# Altium schematic symbol library Resistors.SchLib: 74 symbols
Pins are listed as number, name and electrical type; pins without a type are passive.

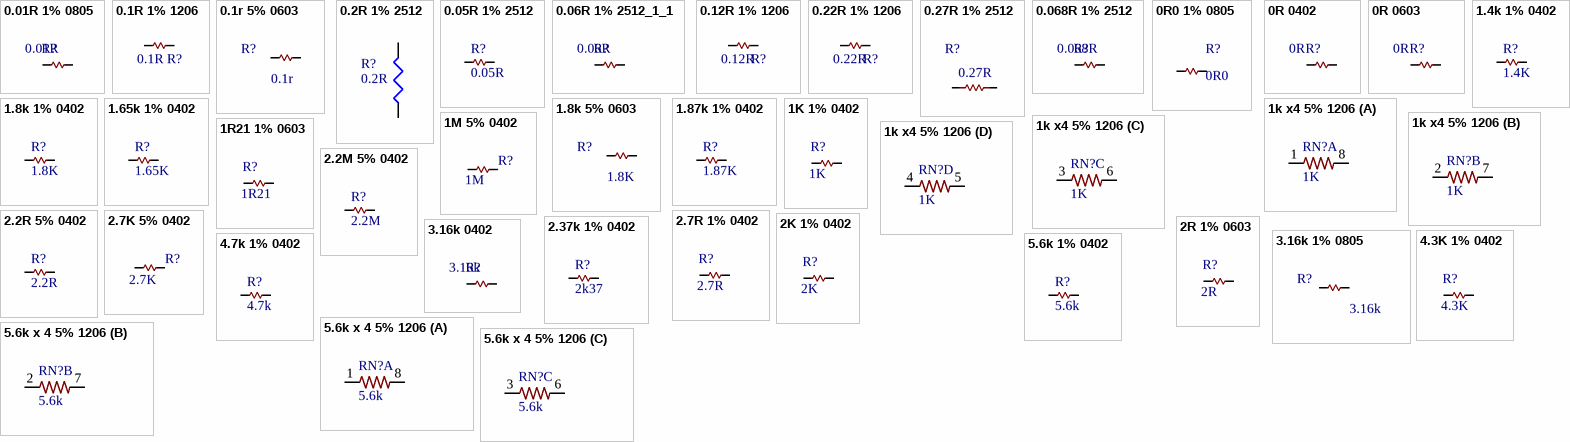
[diagram p0: symbols 0.01R 1% 0805 to 5.6k x 4 5% 1206]

## 0.01R 1% 0805
designator R?, comment 0.01R
RES 0.01 OHM 1% 1/2W 0805; MANUFACTURER: Susumu; MANUFACTURER #: KRL1220E-M-R010-F-T5; PART: 0.01 1% 0.5W 0805; PART DESCRIPTION: 10 mOhms ±1% 0.5W, 1/2W Chip Resistor 0805 (2012 Metric) Automotive AEC-Q200, Current Sense Metal Foil; EE_SPEC: 0.5W; DISTRIBUTOR #: 408-1544-2-ND; DISTRIBUTOR: Digikey; TOLERANCE: 1%; VALUE: 0.01R
footprint R0805
pins: 1, 2

## 0.1R 1% 1206
designator R?, comment 0.1R
RES 1206 0.1r 0.5w 1%; Manufacturer: Bourns; MANUFACTURER #: CRM1206-FX-R100ELF; Part Description: 0.1 Ohm ±1% 0.5W, 1/2W Chip Resistor 1206 (3216 Metric) Current Sense Thick Film; EE_SPEC: 0.1R 1% 1206; Tolerance: +/- 1%; DISTRIBUTOR #: CRM1206-FX-R100ELFTR-ND; DISTRIBUTOR: Digi-Key; PART: 0.1R; VALUE: 0.1R
footprint R1206
pins: 1, 2

## 0.1r 5% 0603
designator R?, comment 0.1r
RES 0.1 OHM 5% 1/10W 0603; MANUFACTURER: Panasonic; MANUFACTURER #: ERJ-3RSJR10V; PART DESCRIPTION: 100 mOhms ±5% 0.1W, 1/10W Chip Resistor 0603 (1608 Metric) Automotive AEC-Q200, Current Sense Thick Film; PART: ERJ-3RSJR10V; TOLERANCE: 5%; EE_SPEC: 1/10W; VALUE: 0.1r
footprint R0603
pins: 1, 2

## 0.2R 1% 2512
designator R?, comment value 0.2R  (hidden comment: 2512)
RES SMD 0.2 OHM 1% 2W 2512; MANUFACTURER #: CSRN2512FKR200; MANUFACTURER: Stackpole ELectronics Inc; PART: 0.2R 1% 2512; PART DESCRIPTION: 0.2 Ohm ±1% 2W Chip Resistor 2512 (6432 Metric) Current Sense Thick Film; DISTRIBUTOR #: CSRN2512FKR200TR-ND; DISTRIBUTOR: Digikey; TOLERANCE: 1%; EE_SPEC: 2W
footprint R2512
pins: 1, 2

## 0.05R 1% 2512
designator R?, comment 0.05R
RES 0.05 OHM 1% 2W 2512; MANUFACTURER: Stackpole; MANUFACTURER #: CSRN2512FK50L0; Part Description: 50 mOhms ±1% 2W Chip Resistor 2512 (6432 Metric) Current Sense Thick Film; EE_SPEC: 0.05R 1% 2512; Tolerance: +/- 1%; VALUE: 0.05R
footprint R2512
pins: 1, 2

## 0.06R 1% 2512_1_1
designator R?, comment 0.06R
RES 0.06 OHM 1W 1% 2512 SMD; MANUFACTURER: Yageo; MANUFACTURER #: RL2512FK-070R06L; PART: 0.6R 1% 2512; PART DESCRIPTION: 0.06 Ohm ±1% 1W Chip Resistor 2512 (6432 Metric) Automotive AEC-Q200, Current Sense, Moisture Resistant Thick Film; DISTRIBUTOR #: 311-0.06TTR-ND; DISTRIBUTOR: Digikey; TOLERANCE: 1%; EE_SPEC: 1W; VALUE: 0.06R
footprint 2512R-0.55 (2512 Resistor 6.35mm x 3.2mm x 0.55mm)
pins: 1, 2

## 0.12R 1% 1206
designator R?, comment 0.12R
RES 0.12 OHM 1% 1/2W 1206; MANUFACTURER #: RL1206FR-7W0R12L; Part Description: 120 mOhms ±1% 0.5W, 1/2W Chip Resistor 1206 (3216 Metric) Automotive AEC-Q200, Current Sense, Moisture Resistant Thick Film; EE_SPEC: 0.12R 1% 1206; Tolerance: +/- 1%; DISTRIBUTOR #: 311-.12LYTR-ND; DISTRIBUTOR: Digi-Key; PART: 0.12R; VALUE: 0.12R
footprint R1206
pins: 1, 2

## 0.22R 1% 1206
designator R?, comment 0.22R
RES SMD 0.22 OHM 1% 1/3W 1206; MANUFACTURER: Panasonic; MANUFACTURER #: RUT3216FR220CS; EE_SPEC: 0.22R 1% 1206; Tolerance: +/- 1%; DISTRIBUTOR #: RUT3216FR220CS; DISTRIBUTOR: Digi-Key; PART: 0.22R; Part Description: RES SMD 0.22 OHM 1% 1/3W 1206; VALUE: 0.22R
footprint R1206
pins: 1, 2

## 0.27R 1% 2512
designator R?, comment 0.27R
RES SMD 0.27 OHM 1% 2W 2512; MANUFACTURER #: RL2512FK-070R27L; MANUFACTURER: Yageo; PART: RES SMD 0.27 OHM 1% 1W 2512; PART DESCRIPTION: ±1% 1W Chip Resistor 2512 (6432 Metric) Automotive AEC-Q200, Current Sense, Moisture Resistant Thick Film; EE_SPEC: 1W; DISTRIBUTOR #: 311-0.27TTR-ND; DISTRIBUTOR: Digikey; TOLERANCE: 1%; VALUE: 0.27R
footprint R2512
pins: 1, 2

## 0.068R 1% 2512
designator R?, comment 0.068R
RES 0.068 OHM 1% 2W 2512; MANUFACTURER: Stackpole; MANUFACTURER #: CSRN2512FK68L0; PART: 0.068R 1% 2512; PART DESCRIPTION: 68 mOhms ±1% 2W Chip Resistor 2512 (6432 Metric) Current Sense Thick Film; DISTRIBUTOR #: CSRN2512FK68L0TR-ND; DISTRIBUTOR: Digikey; TOLERANCE: 1%; EE_SPEC: 2W; VALUE: 0.068R
footprint R2512
pins: 1, 2

## 0R0 1% 0805
designator R?, comment 0R0
RES 0.0 OHM 1/8W JUMP 0805 SMD; MANUFACTURER: STACKPOLE; MANUFACTURER #: RMCF0805ZT0R00; PART DESCRIPTION: 0 Ohms Jumper 0.125W, 1/8W Chip Resistor 0805 (2012 Metric) Automotive AEC-Q200 Thick Film; TOLERANCE: 1%; EE_SPEC: 0.125W; PART: 0R0; DISTRIBUTOR: Digi-Key; DISTRIBUTOR #: RMCF0805ZT0R00CT-ND; VALUE: 0R0
footprint R0805
pins: 1, 2

## 0R 0402
designator R?, comment 0R
RES SMD 0.0OHM JUMPER 1/10W 0402; MANUFACTURER: Panasonic; MANUFACTURER #: ERJ-2GE0R00X; PART DESCRIPTION: 0.0 Ohm Jumper 0.1W, 1/10W Chip Resistor 0402 (1005 Metric) Automotive AEC-Q200 Thick Film; MANUFACTURER2 #: RC0402JR-070RL; TOLERANCE: 1%; DISTRIBUTOR #: P0.0JTR-ND; DISTRIBUTOR: Digikey; PART: 0R; EE_SPEC: 1/10W; VALUE: 0R
footprint R0402
pins: 1, 2

## 0R 0603
designator R?, comment 0R
RES SMD 0.0OHM JUMPER 1/10W 0603; MANUFACTURER: Bourns; MANUFACTURER #: CR0603-J/-000ELF; PART DESCRIPTION: 0.0 Ohm Jumper 0.1W, 1/10W Chip Resistor 0603 (1608 Metric) Moisture Resistant Thick Film; TOLERANCE: -NA-; EE_SPEC: 0R 0603; DISTRIBUTOR #: CR0603-J/-000ELFTR-ND; DISTRIBUTOR: Digikey; PART: 0R; VALUE: 0R
footprint R0603
pins: 1, 2

## 1.4k 1% 0402
designator R?, comment 1.4K
RES SMD 1.4K OHM 1% 1/16W 0402; MANUFACTURER: Stackpole; MANUFACTURER #: RMCF0402FT1K40; Part Description: 1.4 kOhms ±1% 0.063W, 1/16W Chip Resistor 0402 (1005 Metric) Automotive AEC-Q200 Thick Film; EE_SPEC: 1.4k 1% 0402; Tolerance: +/- 1%; VALUE: 1.4K
footprint R0402
pins: 1, 2

## 1.8k 1% 0402
designator R?, comment 1.8K
RES SMD 1.8K OHM 1% 1/16W 0402; Manufacturer: Yageo; MANUFACTURER #: RC0402FR-071K8L; Part Description: 1.8k Ohm ±1% 0.063W, 1/16W Chip Resistor 0402 (1005 Metric) Moisture Resistant Thick Film; EE_SPEC: 1.8k 1% 0402; Tolerance: +/- 1%; VALUE: 1.8K; DISTRIBUTOR #: 311-1.80KLRTR-ND; DISTRIBUTOR: Digi-Key; PART: 1.8k
footprint R0402
pins: 1, 2

## 1.8k 5% 0603
designator R?, comment 1.8K
RES 0603 1.8K 100mW 5%; MANUFACTURER: Yageo; MANUFACTURER #: RC0603JR-071K8L; PART: 1.8k 5% 0603; PART DESCRIPTION: 1.8k Ohm ±5% 0.1W, 1/10W Chip Resistor 0603 (1608 Metric) Moisture Resistant Thick Film; EE_SPEC: 1/10W; DISTRIBUTOR #: 311-1.8KGRTR-ND; DISTRIBUTOR: Digikey; TOLERANCE: 5%; VALUE: 1.8K
footprint R0603
pins: 1, 2

## 1.65k 1% 0402
designator R?, comment 1.65K
RES SMD 1.65K OHM 1% 1/16W 0402; MANUFACTURER: Yageo; MANUFACTURER #: RC0402FR-071K65L; Part Description: 1.65k Ohm ±1% 0.063W, 1/16W Chip Resistor 0402 (1005 Metric) Moisture Resistant Thick Film; EE_SPEC: 1.65k 1% 0402; Tolerance: +/- 1%; VALUE: 1.65K; DISTRIBUTOR #: YAG3043TR-ND; DISTRIBUTOR: Digi-Key; PART: 1.65k
footprint R0402
pins: 1, 2

## 1.87k 1% 0402
designator R?, comment 1.87K
RES SMD 1.87K OHM 1% 1/16W 0402; Manufacturer: Yageo; MANUFACTURER #: RC0402FR-071K87L; Part Description: 1.87k Ohm ±1% 0.063W, 1/16W Chip Resistor 0402 (1005 Metric) Moisture Resistant Thick Film; EE_SPEC: 1.8k 1% 0402; Tolerance: +/- 1%; VALUE: 1.87K; DISTRIBUTOR #: YAG3048TR-ND; DISTRIBUTOR: Digi-Key; PART: 1.87k
footprint R0402
pins: 1, 2

## 1K 1% 0402
designator R?, comment 1K
RES 0402 1K 63mW 1%; MANUFACTURER: Yageo; MANUFACTURER #: RC0402FR-071KL; PART: 1K 1% 0402; PART DESCRIPTION: 1k Ohm ±1% 0.063W, 1/16W Chip Resistor 0402 (1005 Metric) Moisture Resistant Thick Film; EE_SPEC: 1/16W; DISTRIBUTOR #: 311-1.00KLRTR-ND; DISTRIBUTOR: Digikey; TOLERANCE: 1%; VALUE: 1K
footprint R0402
pins: 1, 2

## 1k x4 5% 1206
designator RN?, comment 1K
RES ARRAY 4 RES 1K 1206 62.5mW 5%; Manufacturer: Bourns; MANUFACTURER #: CAY16-102J4LF; Part Description: 1k Ohm ±5% 62.5mW Power Per Element Isolated Resistor Network/Array ±200ppm/°C 1206 (3216 Metric), Convex, Long Side Terminals; EE_SPEC: 1k 5% Array_x_4; Tolerance: +/- 5%; VALUE: 1K; DISTRIBUTOR #: CAY16-102J4LFTR-ND; DISTRIBUTOR: Digi-Key; PART: 1K
footprint CAY16
part A pins: 1, 8 2
part B pins: 2 1, 7 2
part C pins: 3 1, 6 2
part D pins: 4 1, 5 2

## 1M 5% 0402
designator R?, comment 1M
RES 0402 1M 100mW 5%; MANUFACTURER: Panasonic; MANUFACTURER #: ERJ2GEJ105X; PART: 1M 5% 0402; PART DESCRIPTION: 1M Ohm ±5% 0.1W, 1/10W Chip Resistor 0402 (1005 Metric) Automotive AEC-Q200 Thick Film; EE_SPEC: 1/10W; DISTRIBUTOR #: P1.0MJTR-ND; DISTRIBUTOR: Digikey; TOLERANCE: 5%; VALUE: 1M
footprint R0402
pins: 1, 2

## 1R21 1% 0603
designator R?, comment 1R21
RES SMD 1.21 OHM 1% 1/10W 0603; MANUFACTURER: Stackpole; MANUFACTURER #: RMCF0603FT1R21; PART: 1R21 1% 0603; PART DESCRIPTION: 1.21 Ohm ±1% 0.1W, 1/10W Chip Resistor 0603 (1608 Metric) Automotive AEC-Q200 Thick Film; DISTRIBUTOR #: RMCF0603FT1R21TR-ND; DISTRIBUTOR: Digikey; TOLERANCE: 1%; EE_SPEC: 1/10W; VALUE: 1R21
footprint R0603
pins: 1, 2

## 2.2M 5% 0402
designator R?, comment 2.2M
RES SMD 2.2 MOHM 5% 1/16W 0402; MANUFACTURER: Yageo; MANUFACTURER #: RC0402JR-072M2L; Part Description: 2.2 MOhms ±5% 0.063W, 1/16W Chip Resistor 0402 (1005 Metric) Moisture Resistant Thick Film; EE_SPEC: 2.2M 5% 0402; Tolerance: +/- 5%; VALUE: 2.2M
footprint R0402
pins: 1, 2

## 2.2R 5% 0402
designator R?, comment 2.2R
RES SMD 2.2 OHM 5% 1/16W 0402; MANUFACTURER: Yageo; MANUFACTURER #: RC0402JR-072R2L; Part Description: 2.2 Ohms ±5% 0.063W, 1/16W Chip Resistor 0402 (1005 Metric) Moisture Resistant Thick Film; EE_SPEC: 2.2R 5% 0402; Tolerance: +/- 5%; VALUE: 2.2R
footprint R0402
pins: 1, 2

## 2.7K 5% 0402
designator R?, comment 2.7K
RES SMD 2.7K OHM 5% 1/16W 0402; MANUFACTURER: Yageo; MANUFACTURER #: RC0402JR-072K7L; PART: 2.7K 5% 0402; PART DESCRIPTION: 2.7 kOhms ±5% 0.063W, 1/16W Chip Resistor 0402 (1005 Metric) Moisture Resistant Thick Film; TOLERANCE: 5%; EE_SPEC: 1/16W; VALUE: 2.7K
footprint R0402
pins: 1, 2

## 2.7R 1% 0402
designator R?, comment 2.7R
RES 2.7 OHM 1% 1/10W 0402; MANUFACTURER: KOA; MANUFACTURER #: RK73H1ETTP2R70F; PART DESCRIPTION: 2.7 Ohms ±1% 0.1W, 1/10W Chip Resistor 0402 (1005 Metric) Automotive AEC-Q200 Thick Film; EE_SPEC: 1/10th; PART: RK73H1ETTP2R70F; TOLERANCE: 1%; VALUE: 2.7R
footprint R0402
pins: 1, 2

## 2.37k 1% 0402
designator R?, comment 2k37
RES SMD 2.37K OHM 1% 1/16W 0402; MANUFACTURER: Yageo; MANUFACTURER #: RC0402FR-072K37L; PART: 2.37k 1% 0402; PART DESCRIPTION: 2.37k Ohm ±1% 0.063W, 1/16W Chip Resistor 0402 (1005 Metric) Moisture Resistant Thick Film; DISTRIBUTOR #: 311-2.37KLRTR-ND; DISTRIBUTOR: Digikey; TOLERANCE: 1%; EE_SPEC: 1/16W; VALUE: 2k37
footprint R0402
pins: 1, 2

## 2K 1% 0402
designator R?, comment 2K
RES SMD 2K OHM 1% 1/16W 0402; MANUFACTURER: Yageo; MANUFACTURER #: RC0402FR-072KL; PART: 2k 1% 0402; PART DESCRIPTION: 2 kOhms ±1% 0.063W, 1/16W Chip Resistor 0402 (1005 Metric) Moisture Resistant Thick Film; TOLERANCE: 1%; EE_SPEC: 1/16W; VALUE: 2K
footprint R0402
pins: 1, 2

## 2R 1% 0603
designator R?, comment 2R
RES SMD 2 OHM 1% 1/10W 0603; MANUFACTURER: Yageo; MANUFACTURER #: RC0603FR-072RL; PART: 2R 1% 0603; PART DESCRIPTION: 2 Ohm ±1% 0.1W, 1/10W Chip Resistor 0603 (1608 Metric) Moisture Resistant Thick Film; DISTRIBUTOR #: 311-2.00HRTR-ND; DISTRIBUTOR: Digikey; TOLERANCE: 1%; EE_SPEC: 1/10W; VALUE: 2R
footprint R0603
pins: 1, 2

## 3.16k 1% 0805
designator R?, comment 3.16k
RES SMD 3.16K OHM 1% 1/8W 0805; MANUFACTURER: Yageo; MANUFACTURER #: RC0805FR-073K16L; PART DESCRIPTION: 3.16k Ohm ±1% 0.125W, 1/8W Chip Resistor 0805 (2012 Metric) Moisture Resistant Thick Film; DISTRIBUTOR #: 311-3.16KCRTR-ND; DISTRIBUTOR: Digikey; PART: RES SMD 3.16K OHM 1% 1/8W 0805; TOLERANCE: 1%; EE_SPEC: 1/8W; VALUE: 3.16k
footprint R0805
pins: 1, 2

## 3.16k 0402
designator R?, comment 3.16k
RES SMD 3.16K OHM 1% 1/16W 0402; MANUFACTURER: Yageo; MANUFACTURER #: RC0402FR-073K16L; PART DESCRIPTION: 3.16k Ohm ±1% 0.063W, 1/16W Chip Resistor 0402 (1005 Metric) Moisture Resistant Thick Film; DISTRIBUTOR #: YAG3146TR-ND; DISTRIBUTOR: Digikey; PART: RES SMD 3.16K OHM 1% 1/16W 0402; TOLERANCE: 1%; VALUE: 3.16k
footprint R0402
pins: 1, 2

## 4.3K 1% 0402
designator R?, comment 4.3K
RES SMD 4.3K OHM 1% 1/16W 0402; MANUFACTURER: Yageo; MANUFACTURER #: RC0402FR-074K3L; PART: 4.3K 1% 0402; PART DESCRIPTION: 2 kOhms ±1% 0.063W, 1/16W Chip Resistor 0402 (1005 Metric) Moisture Resistant Thick Film; TOLERANCE: 1%; EE_SPEC: 1/16W; VALUE: 4.3K
footprint R0402
pins: 1, 2

## 4.7k 1% 0402
designator R?, comment 4.7k
RES SMD 4.7K OHM 1% 1/16W 0402; MANUFACTURER: YAGEO; MANUFACTURER #: RC0402FR-074K7L; PART: 4.7k 1% 0402; PART DESCRIPTION: 4.7k Ohm ±1% 0.063W, 1/16W Chip Resistor 0402 (1005 Metric) Moisture Resistant Thick Film; DISTRIBUTOR #: 311-4.7KLRTR-ND; DISTRIBUTOR: Digikey; TOLERANCE: 1%; EE_SPEC: 1/16W; VALUE: 4.7k
footprint R0402
pins: 1, 2

## 5.6k 1% 0402
designator R?, comment 5.6k
RES SMD 5.6K OHM 1% 1/16W 0402; MANUFACTURER: YAGEO; MANUFACTURER #: RC0402FR-075K6L; PART DESCRIPTION: ±1% 0.063W, 1/16W Chip Resistor 0402 (1005 Metric) Moisture Resistant Thick Film; DISTRIBUTOR #: 311-5.6KLRTR-ND; DISTRIBUTOR: Digikey; PART: RES SMD 5.6K OHM 1% 1/16W 0402; TOLERANCE: 1%; EE_SPEC: 1/16W; VALUE: 5.6k
footprint R0402
pins: 1, 2

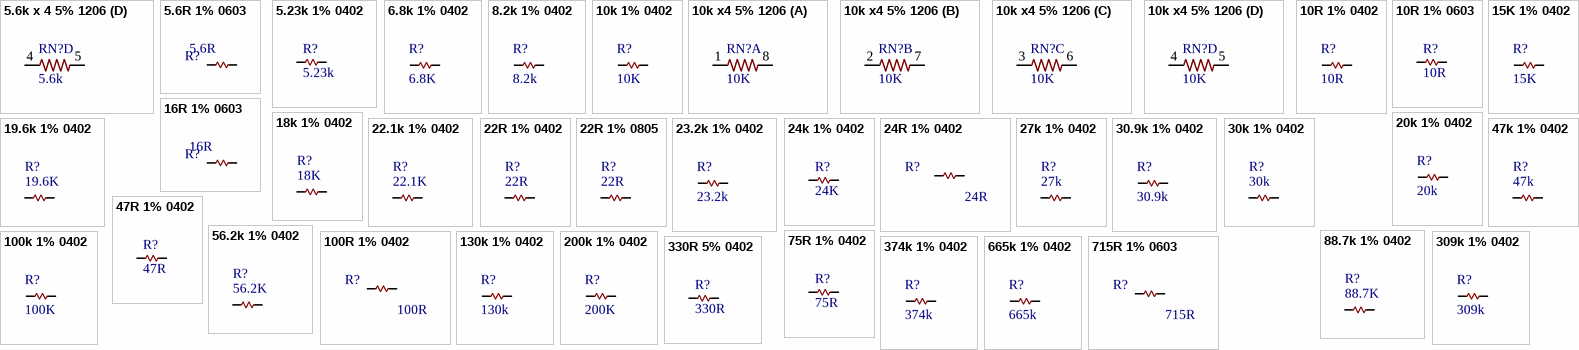
[diagram p1: symbols 5.6k x 4 5% 1206 to 715R 1% 0603]

## 5.6k x 4 5% 1206
designator RN?, comment 5.6k
RES ARRAY 4 RES 5.6K OHM 1206; Manufacturer: Bourns; MANUFACTURER #: CAY16-562J4LF; Part Description: 5.6k Ohm ±5% 62.5mW Power Per Element Isolated Resistor Network/Array ±200ppm/°C 1206 (3216 Metric), Convex, Long Side Terminals; EE_SPEC: 5.6k x 4 5% 1206; Tolerance: +/- 5%; VALUE: 5.6k; DISTRIBUTOR #: CAY16-562J4LFCT-ND; DISTRIBUTOR: Digi-Key; PART: 5.6k
footprint CAY16
part A pins: 1, 8 2
part B pins: 2 1, 7 2
part C pins: 3 1, 6 2
part D pins: 4 1, 5 2

## 5.6R 1% 0603
designator R?, comment 5.6R
RES SMD 5.6 OHM 1% 1/10W 0603; MANUFACTURER: Panasonic; MANUFACTURER #: ERJ-3RQF5R6V; PART: 5.6R 1% 0603; PART DESCRIPTION: 5.6 Ohms ±1% 0.1W, 1/10W Chip Resistor 0603 (1608 Metric) Automotive AEC-Q200, Current Sense Thick Film; TOLERANCE: 1%; EE_SPEC: 1/10W; VALUE: 5.6R
footprint R0603
pins: 1, 2

## 5.23k 1% 0402
designator R?, comment 5.23k
RES SMD 5.23K OHM 1% 1/16W 0402; MANUFACTURER: YAGEO; MANUFACTURER #: RC0402FR-075K23L; PART: 5.23k 1% 0402; PART DESCRIPTION: 5.23k Ohm ±1% 0.063W, 1/16W Chip Resistor 0402 (1005 Metric) Moisture Resistant Thick Film; DISTRIBUTOR #: YAG3195TR-ND; DISTRIBUTOR: Digikey; TOLERANCE: 1%; EE_SPEC: 1/16W; VALUE: 5.23k
footprint R0402
pins: 1, 2

## 6.8k 1% 0402
designator R?, comment 6.8K
RES SMD 6.8K OHM 1% 1/16W 0402; MANUFACTURER: Vishay Dale; MANUFACTURER #: CRCW04026K80FKED; PART: 6.8k 1% 0402; PART DESCRIPTION: 6.8k Ohm ±1% 0.063W, 1/16W Chip Resistor 0402 (1005 Metric) Automotive AEC-Q200 Thick Film; DISTRIBUTOR #: 541-6.80KLTR-ND; DISTRIBUTOR: Digikey; TOLERANCE: 1%; EE_SPEC: 1/16W; VALUE: 6.8K
footprint R0402
pins: 1, 2

## 8.2k 1% 0402
designator R?, comment 8.2k
RES SMD 8.2K OHM 1% 1/16W 0402; MANUFACTURER: Yageo; MANUFACTURER #: RC0402FR-078K2L; PART DESCRIPTION: 8.2k Ohm ±1% 0.063W, 1/16W Chip Resistor 0402 (1005 Metric) Moisture Resistant Thick Film; DISTRIBUTOR #: 311-8.20KLRTR-ND; DISTRIBUTOR: Digikey; PART: RES SMD 8.2K OHM 1% 1/16W 0402; TOLERANCE: 1%; EE_SPEC: 1/16W; VALUE: 8.2k
footprint R0402
pins: 1, 2

## 10k 1% 0402
designator R?, comment 10K
RES SMD 10K OHM 1% 1/16W 0402; MANUFACTURER: Yageo; MANUFACTURER #: RC0402FR-0710KP; PART: 10k 1% 0402; PART DESCRIPTION: 10k Ohm ±1% 0.063W, 1/16W Chip Resistor 0402 (1005 Metric) Moisture Resistant Thick Film; DISTRIBUTOR #: YAG1249TR-ND; DISTRIBUTOR: Digikey; TOLERANCE: 1%; EE_SPEC: 1/16W; VALUE: 10K
footprint R0402
pins: 1, 2

## 10k x4 5% 1206
designator RN?, comment 10K
RES ARRAY 4 RES 10K 1206 62.5mW 5%; Manufacturer: Bourns; MANUFACTURER #: CAY16-103J4LF; Part Description: 10k Ohm ±5% 62.5mW Power Per Element Isolated Resistor Network/Array ±200ppm/°C 1206 (3216 Metric), Convex, Long Side Terminals; EE_SPEC: 10k 5% Array_x_4; Tolerance: +/- 5%; VALUE: 10K; DISTRIBUTOR #: CAY16-103J4LFTR-ND; DISTRIBUTOR: Digi-Key; PART: 10K
footprint CAY16
part A pins: 1, 8 2
part B pins: 2 1, 7 2
part C pins: 3 1, 6 2
part D pins: 4 1, 5 2

## 10R 1% 0402
designator R?, comment 10R
RES SMD 10 OHM 1% 1/16W 0402; MANUFACTURER: Yageo; MANUFACTURER #: RC0402FR-0710RL; PART: 10R 1% 0402; PART DESCRIPTION: 10 Ohm ±1% 0.063W, 1/16W Chip Resistor 0402 (1005 Metric) Moisture Resistant Thick Film; DISTRIBUTOR #: 311-10.0LRTR-ND; DISTRIBUTOR: Digikey; TOLERANCE: 1%; EE_SPEC: 1/16W; VALUE: 10R
footprint R0402
pins: 1, 2

## 10R 1% 0603
designator R?, comment 10R
RES SMD 10 OHM 1% 1/10W 0603; MANUFACTURER: Yageo; MANUFACTURER #: CRCW040247R0FKEDC; Part Description: 10 Ohms ±1% 0.1W, 1/10W Chip Resistor 0603 (1608 Metric) Moisture Resistant Thick Film; EE_SPEC: 10R 1% 0603; Tolerance: +/- 1%; VALUE: 10R
footprint R0402
pins: 1, 2

## 15K 1% 0402
designator R?, comment 15K
RES SMD 15K 1% 1/16W 0402; MANUFACTURER: Samsung; MANUFACTURER #: RC1005F153CS; PART: 15K 1% 0402; PART DESCRIPTION: 15K Ohm ±1% 0.063W, 1/16W Chip Resistor 0402 (1005 Metric) Moisture Resistant Thick Film; DISTRIBUTOR #: 1276-3442-2-ND; DISTRIBUTOR: Digikey; TOLERANCE: 1%; EE_SPEC: 1/16W; VALUE: 15K
footprint R0402
pins: 1, 2

## 16R 1% 0603
designator R?, comment 16R
RES SMD 16 OHM 1% 1/10W 0603; MANUFACTURER: Yageo; MANUFACTURER #: RC0603FR-0716RL; PART: 16R 1% 0603; PART DESCRIPTION: 16 Ohms ±1% 0.1W, 1/10W Chip Resistor 0603 (1608 Metric) Moisture Resistant Thick Film; TOLERANCE: 1%; EE_SPEC: 1/10W; VALUE: 16R
footprint R0603
pins: 1, 2

## 18k 1% 0402
designator R?, comment 18K
RES SMD 18K OHM 5% 1/16W 0402; Manufacturer: Yageo; MANUFACTURER #: RC0402JR-0718KL; Part Description: 18 kOhms ±5% 0.063W, 1/16W Chip Resistor 0402 (1005 Metric) Moisture Resistant Thick Film; EE_SPEC: 18k 1% 0402; Tolerance: +/- 1%; PART: RC0402JR-0718KL; VALUE: 18K
footprint R0402
pins: 1, 2

## 19.6k 1% 0402
designator R?, comment 19.6K
RES SMD 19.6K OHM 1% 1/16W 0402; Manufacturer: Yageo; MANUFACTURER #: RC0402FR-0719K6L; Part Description: 19.6 kOhms ±1% 0.063W, 1/16W Chip Resistor 0402 (1005 Metric) Moisture Resistant Thick Film; EE_SPEC: 19.6k 1% 0402; Tolerance: +/- 1%; PART: RC0402FR-0719K6L; VALUE: 19.6K
footprint R0402
pins: 1, 2

## 20k 1% 0402
designator R?, comment 20k
RES SMD 20K OHM 1% 1/16W 0402; MANUFACTURER: Yageo; MANUFACTURER #: RC0402FR-0720KL; PART DESCRIPTION: 20k Ohm ±1% 0.063W, 1/16W Chip Resistor 0402 (1005 Metric) Moisture Resistant Thick Film; DISTRIBUTOR #: 311-20.0KLRTR-ND; DISTRIBUTOR: Digikey; PART: RES SMD 20K OHM 1% 1/16W 0402; TOLERANCE: 1%; EE_SPEC: 1/16W; VALUE: 20k
footprint R0402
pins: 1, 2

## 22.1k 1% 0402
designator R?, comment 22.1K
RES SMD 22.1K OHM 1% 1/16W 0402; Manufacturer: Yageo; MANUFACTURER #: RC0402FR-0722K1L; Part Description: 22.1 kOhms ±1% 0.063W, 1/16W Chip Resistor 0402 (1005 Metric) Moisture Resistant Thick Film; EE_SPEC: 22.1k 1% 0402; Tolerance: +/- 1%; PART: RC0402FR-0722K1L; VALUE: 22.1K
footprint R0402
pins: 1, 2

## 22R 1% 0402
designator R?, comment 22R
RES 0402 22r 62.5mW 1%; MANUFACTURER: Yageo; MANUFACTURER #: RC0402FR-0722RL; Part Description: 22 Ohm ±1% 0.063W, 1/16W Chip Resistor 0402 (1005 Metric) Moisture Resistant Thick Film; EE_SPEC: 22R 1% 0402; Tolerance: +/- 1%; DISTRIBUTOR #: 311-22.0LRTR-ND; DISTRIBUTOR: Digi-Key; PART: 22R; VALUE: 22R
footprint R0402
pins: 1, 2

## 22R 1% 0805
designator R?, comment 22R
RES SMD 22 OHM 1% 1/8W 0805; MANUFACTURER: Yageo; MANUFACTURER #: RC0805FR-0722RL; Part Description: ±1% 0.125W, 1/8W Chip Resistor 0805 (2012 Metric) Moisture Resistant Thick Film; EE_SPEC: 22R 1% 0805; Tolerance: +/- 1%; DISTRIBUTOR #: 311-22.0CRTR-ND; DISTRIBUTOR: Digi-Key; PART: RES SMD 22 OHM 1% 1/8W 0805; VALUE: 22R
footprint R0805
pins: 1, 2

## 23.2k 1% 0402
designator R?, comment 23.2k
RES SMD 23.2K OHM 1% 1/16W 0402; MANUFACTURER: Yageo; MANUFACTURER #: RC0402FR-0723K2L; PART DESCRIPTION: 23.2 kOhms ±1% 0.063W, 1/16W Chip Resistor 0402 (1005 Metric) Moisture Resistant Thick Film; DISTRIBUTOR #: YAG3066CT-ND; DISTRIBUTOR: Digikey; PART: 23.2k; TOLERANCE: 1%; EE_SPEC: 1/16W; VALUE: 23.2k
footprint R0402
pins: 1, 2

## 24k 1% 0402
designator R?, comment 24K
RES SMD 24K OHM 1% 1/16W 0402; MANUFACTURER: Visha Dale; MANUFACTURER #: CRCW040224K0FKEDC; Part Description: 24 kOhms ±1% 0.063W, 1/16W Chip Resistor 0402 (1005 Metric)  Thick Film; EE_SPEC: 24k 1% 0402; Tolerance: +/- 1%; VALUE: 24K
footprint R0402
pins: 1, 2

## 24R 1% 0402
designator R?, comment 24R
Res Thick Film 0402 24 Ohm 1% 0.063W; MANUFACTURER: Yageo; MANUFACTURER #: RC0402FR-0724RL; PART: 24R 1% 0402; PART DESCRIPTION: 24 Ohm ±1% 0.063W, 1/16W Chip Resistor 0402 (1005 Metric) Moisture Resistant Thick Film; EE_SPEC: 1/16W; DISTRIBUTOR #: YAG3073TR-ND; DISTRIBUTOR: Digikey; TOLERANCE: 1%; VALUE: 24R
footprint R0402
pins: 1, 2

## 27k 1% 0402
designator R?, comment 27k
RES SMD 27K OHM 1% 1/16W 0402; Manufacturer: Rohm; MANUFACTURER #: MCR01MRTF2702; Part Description: 27 kOhms ±1% 0.063W, 1/16W Chip Resistor 0402 (1005 Metric) Thick Film; EE_SPEC: 27k 1% 0402; Tolerance: +/- 1%; DISTRIBUTOR #: RHM27.0KCDTR-ND; DISTRIBUTOR: Digi-Key; PART: 27k; VALUE: 27k
footprint R0402
pins: 1, 2

## 30.9k 1% 0402
designator R?, comment 30.9k
RES SMD 30.9K OHM 1% 1/16W 0402; MANUFACTURER: Yageo; MANUFACTURER #: RC0402FR-0730K9L; PART DESCRIPTION: 30.9 kOhms ±1% 0.063W, 1/16W Chip Resistor 0402 (1005 Metric) Moisture Resistant Thick Film; DISTRIBUTOR #: YAG3110CT-ND; DISTRIBUTOR: Digikey; PART: 30.9k; TOLERANCE: 1%; EE_SPEC: 1/16W; VALUE: 30.9k
footprint R0402
pins: 1, 2

## 30k 1% 0402
designator R?, comment 30k
RES SMD 30K OHM 1% 1/16W 0402; Manufacturer: Yageo; MANUFACTURER #: RC0402FR-0730KL; Part Description: 30k Ohm ±1% 0.063W, 1/16W Chip Resistor 0402 (1005 Metric) Moisture Resistant Thick Film; EE_SPEC: 30k 1% 0402; Tolerance: +/- 1%; DISTRIBUTOR #: 311-30.0KLRTR-ND; DISTRIBUTOR: Digi-Key; PART: 30k; VALUE: 30k
footprint R0402
pins: 1, 2

## 47k 1% 0402
designator R?, comment 47k
RES SMD 47K OHM 1% 1/16W 0402; Manufacturer: Yageo; MANUFACTURER #: RC0402FR-0747KL; Part Description: 47k Ohm ±1% 0.063W, 1/16W Chip Resistor 0402 (1005 Metric) Moisture Resistant Thick Film; EE_SPEC: 47k 1% 0402; Tolerance: +/- 1%; DISTRIBUTOR #: 311-47.0KLRTR-ND; DISTRIBUTOR: Digi-Key; PART: 47k; VALUE: 47k
footprint R0402
pins: 1, 2

## 47R 1% 0402
designator R?, comment 47R
RES 47 OHM 1% 1/16W 0402; MANUFACTURER: Vishay Dale; MANUFACTURER #: CRCW040247R0FKEDC; Part Description: 47 Ohms ±1% 0.063W, 1/16W Chip Resistor 0402 (1005 Metric)  Thick Film; EE_SPEC: 47R 1% 0402; Tolerance: +/- 1%; VALUE: 47R
footprint R0402
pins: 1, 2

## 56.2k 1% 0402
designator R?, comment 56.2K
RES SMD 18K OHM 5% 1/16W 0402; Manufacturer: Yageo; MANUFACTURER #: RC0402FR-0756K2L; Part Description: 56.2 kOhms ±1% 0.063W, 1/16W Chip Resistor 0402 (1005 Metric) Moisture Resistant Thick Film; EE_SPEC: 56.2k 1% 0402; Tolerance: +/- 1%; PART: RC0402FR-0756K2L; VALUE: 56.2K
footprint R0402
pins: 1, 2

## 75R 1% 0402
designator R?, comment 75R
RES SMD 75 OHM 1% 1/16W 0402; Manufacturer: Yageo; MANUFACTURER #: RC0402FR-0775RL; Part Description: 75 Ohms ±1% 0.063W, 1/16W Chip Resistor 0402 (1005 Metric) Moisture Resistant Thick Film; EE_SPEC: 1.8k 1% 0402; Tolerance: +/- 1%; VALUE: 75R; PART: RC0402FR-0775RL
footprint R0402
pins: 1, 2

## 88.7k 1% 0402
designator R?, comment 88.7K
RES SMD 88.7K OHM 1% 1/16W 0402; Manufacturer: Yageo; MANUFACTURER #: RC0402FR-0788K7L; Part Description: 88.7 kOhms ±1% 0.063W, 1/16W Chip Resistor 0402 (1005 Metric) Moisture Resistant Thick Film; EE_SPEC: 88.7k 1% 0402; Tolerance: +/- 1%; PART: RC0402FR-0788K7L; VALUE: 88.7K
footprint R0402
pins: 1, 2

## 100k 1% 0402
designator R?, comment 100K
RES SMD 100K OHM 1% 1/16W 0402; MANUFACTURER: Samsung; MANUFACTURER #: RC1005F104CS; PART: 100k 1% 0402; PART DESCRIPTION: 100k Ohm ±1% 0.063W, 1/16W Chip Resistor 0402 (1005 Metric) Moisture Resistant Thick Film; DISTRIBUTOR #: 1276-3432-1-ND; DISTRIBUTOR: Digikey; TOLERANCE: 1%; EE_SPEC: 1/16W; VALUE: 100K
footprint R0402
pins: 1, 2

## 100R 1% 0402
designator R?, comment 100R
RES SMD 100 OHM 1% 1/16W 0402; MANUFACTURER: Yageo; MANUFACTURER #: RC0402FR-07100RL; PART: 100R 1% 0402; PART DESCRIPTION: 100 Ohm ±1% 0.063W, 1/16W Chip Resistor 0402 (1005 Metric) Moisture Resistant Thick Film; DISTRIBUTOR #: 311-100LRTR-ND; DISTRIBUTOR: Digikey; TOLERANCE: 1%; EE_SPEC: 1/16W; VALUE: 100R
footprint R0402
pins: 1, 2

## 130k 1% 0402
designator R?, comment 130k
RES SMD 130K OHM 5% 1/16W 0402; MANUFACTURER: Yageo; MANUFACTURER #: RC0402JR-07130KL; PART: 130k 1% 0402; PART DESCRIPTION: 130 kOhms ±5% 0.063W, 1/16W Chip Resistor 0402 (1005 Metric) Moisture Resistant Thick Film; TOLERANCE: 1%; DISTRIBUTOR #: YAG3273CT-ND; DISTRIBUTOR: Digikey; EE_SPEC: 1/16W; VALUE: 130k
footprint R0402
pins: 1, 2

## 200k 1% 0402
designator R?, comment 200K
RES 0402 200k 63mW 1%; MANUFACTURER: Vishay Dale; MANUFACTURER #: CRCW0402200KFKED; PART: 200k 1% 0402; PART DESCRIPTION: 200k Ohm ±1% 0.063W, 1/16W Chip Resistor 0402 (1005 Metric) Automotive AEC-Q200 Thick Film; EE_SPEC: 1/16W; DISTRIBUTOR #: 541-200KLTR-ND; DISTRIBUTOR: Digikey; TOLERANCE: 1%; VALUE: 200K
footprint R0402
pins: 1, 2

## 309k 1% 0402
designator R?, comment 309k
RES SMD 309K OHM 1% 1/16W 0402; MANUFACTURER: Yageo; MANUFACTURER #: RC0402FR-07309KL; PART: 309k 1% 0402; PART DESCRIPTION: 309 kOhms ±1% 0.063W, 1/16W Chip Resistor 0402 (1005 Metric) Moisture Resistant Thick Film; DISTRIBUTOR #: YAG3108CT-ND; DISTRIBUTOR: Digikey; TOLERANCE: 1%; EE_SPEC: 1/16W; VALUE: 309k
footprint R0402
pins: 1, 2

## 330R 5% 0402
designator R?, comment 330R
RES SMD 330 OHM 1% 1/16W 0402; MANUFACTURER: Yageo; MANUFACTURER #: RL0402FR-070R33L; Part Description: 330 Ohms ±1% 0.063W, 1/16W Chip Resistor 0402 (1005 Metric) Moisture Resistant Thick Film; EE_SPEC: 330R 1% 0402; Tolerance: +/- 1%; VALUE: 330R
footprint R0402
pins: 1, 2

## 374k 1% 0402
designator R?, comment 374k
RES SMD 374K OHM 1% 1/16W 0402; MANUFACTURER: Yageo; MANUFACTURER #: RC0402FR-07374KL; PART: 374k 1% 0402; PART DESCRIPTION: 374 kOhms ±1% 0.063W, 1/16W Chip Resistor 0402 (1005 Metric) Moisture Resistant Thick Film; DISTRIBUTOR #: YAG3136CT-ND; DISTRIBUTOR: Digikey; TOLERANCE: 1%; EE_SPEC: 1/16W; VALUE: 374k
footprint R0402
pins: 1, 2

## 665k 1% 0402
designator R?, comment 665k
RES SMD 665K OHM 1% 1/16W 0402; MANUFACTURER: Yageo; MANUFACTURER #: RC0402FR-07665KL; PART: 665k 1% 0402; PART DESCRIPTION: 665 kOhms ±1% 0.063W, 1/16W Chip Resistor 0402 (1005 Metric) Moisture Resistant Thick Film; DISTRIBUTOR #: YAG2374CT-ND; DISTRIBUTOR: Digikey; TOLERANCE: 1%; EE_SPEC: 1/16W; VALUE: 665k
footprint R0402
pins: 1, 2

## 715R 1% 0603
designator R?, comment 715R
RES SMD 715 OHM 1% 1/10W 0603; MANUFACTURER: Yageo; MANUFACTURER #: RC0603FR-07715RL; PART: 715R 1% 0603; PART DESCRIPTION: 715 Ohm ±1% 0.1W, 1/10W Chip Resistor 0603 (1608 Metric) Moisture Resistant Thick Film; DISTRIBUTOR #: 311-715HRTR-ND; DISTRIBUTOR: Digikey; TOLERANCE: 1%; EE_SPEC: 1/10W; VALUE: 715R
footprint R0603
pins: 1, 2

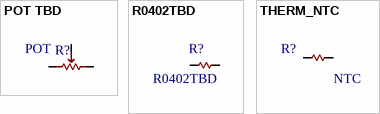
[diagram p2: symbols POT TBD to THERM_NTC]

## POT TBD
designator R?, comment POT
Potentiometer Placeholder; MANUFACTURER #: POT TBD; VALUE: POT
pins: 1, 2, 3

## R0402TBD
designator R?
Resistor; MANUFACTURER #: DNI-R0402TBD; DNI: DNI; VALUE: R0402TBD
footprint R0402
pins: 1, 2

## THERM_NTC
designator R?, comment NTC
NTC THERMISTOR 100K OHM 5% 0402; MANUFACTURER: TDK; MANUFACTURER #: NTCG104LH104JT1; PART DESCRIPTION: NTC Thermistor 100k 0402 (1005 Metric); EE_SPEC: 100mW; DISTRIBUTOR #: 445-174317-2-ND; DISTRIBUTOR: Digikey; PART: NTC; TOLERANCE: 5%; VALUE: NTC
footprint R0402
pins: 1, 2